# EAGLE library part OPEN-BLDC_OBLDC_CONN_UNIVERSAL (library power)
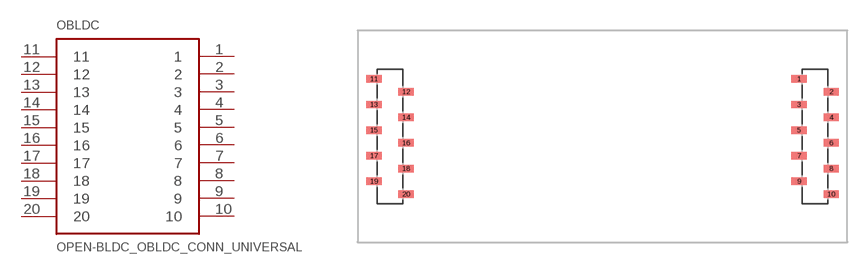
[diagram p1: symbol with the pads of OPEN-BLDC_OBLDC_CONN_SMD_NO_HOLES; footprint OPEN-BLDC_OBLDC_CONN_SMD_NO_HOLES]

Designator prefix OBLDC

## OPEN-BLDC_OBLDC_CONN_UNIVERSAL-SMD-NH  [OPEN-BLDC_OBLDC_CONN_SMD_NO_HOLES]
1  1
2  2
3  3
4  4
5  5
6  6
7  7
8  8
9  9
10  10
11  11
12  12
13  13
14  14
15  15
16  16
17  17
18  18
19  19
20  20

## Footprint OPEN-BLDC_OBLDC_CONN_SMD_NO_HOLES (pad centres in mm)
smd 1.525 x 0.74: 1 43.727,16.2; 2 46.903,14.93; 3 43.727,13.66; 4 46.903,12.39; 5 43.727,11.12; 6 46.903,9.85; 7 43.727,8.58; 8 46.903,7.31; 9 43.727,6.04; 10 46.903,4.77; 11 1.624,16.2; 12 4.799,14.93; 13 1.624,13.66; 14 4.799,12.39; 15 1.624,11.12; 16 4.799,9.85; 17 1.624,8.58; 18 4.799,7.31; 19 1.624,6.04; 20 4.799,4.77